# Altium schematic symbol library SBR2U30SA-13.SchLib: 1 symbol
Pins are listed as number, name and electrical type; pins without a type are passive.

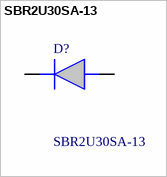
[diagram p0: symbol SBR2U30SA-13]

## SBR2U30SA-13
designator D?
Rectifier Diode Super Barrier Rectifier 30V 2A 2-Pin SMA T/R; Manufacturer_Name: Diodes Incorporated; Geometry.Height: 2.3mm; Mouser Part Number: 621-SBR2U30SA-13; Mouser Price/Stock: https://www.mouser.co.uk/ProductDetail/Diodes-Incorporated/SBR2U30SA-13?qs=oUsD4qhOtFzn2RwqTbZr%252Bw%3D%3D; Manufacturer_Part_Number: SBR2U30SA-13; Datasheet Link: https://www.diodes.com/assets/Datasheets/SBR2U30SA.pdf
footprint DIOM5226X230N
pins: 1 K, 2 A